# Altium footprint library SQD90P04-9m4L_GE3.PcbLib: 1 footprints
Each footprint in its own frame and in the unit in brackets; x right, y up, seen from the top. Pads: shape width x height; smd on the part's side, far side on the other; paste and mask are expansions set on the pad; w line width, h text height; cw(c..) or ccw(c..) is an arc to the next point about the centre after c.
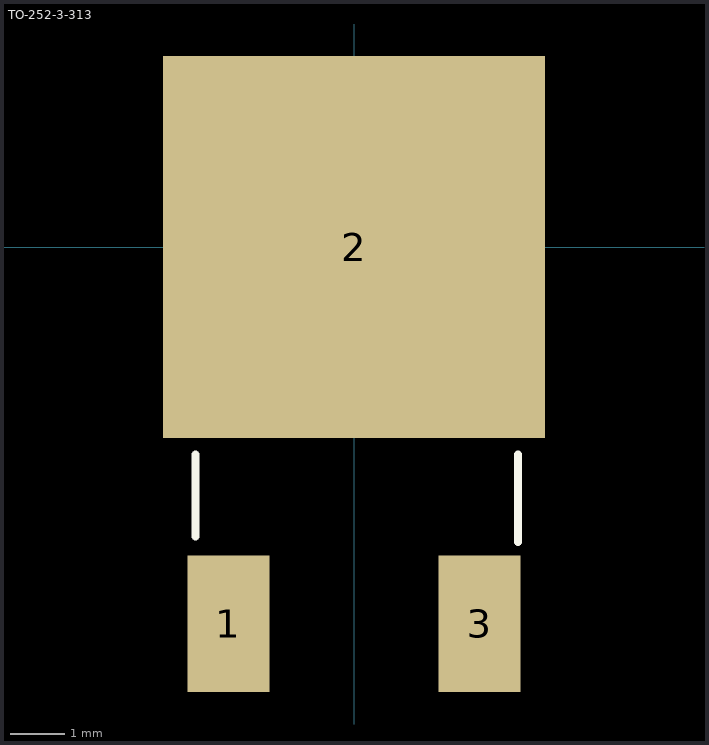
[diagram p0: the footprint, top view; thin cyan lines are the x and y axes]

## TO-252-3-313 [mm]
pads (3):
  rect 1.5x2.5 smd: 1(-2.3,-6.9) 3(2.3,-6.9)
  rect 7x7 smd: 2(0,0)
Top Overlay:
  lines w0.15: -2.9,-5.3 -2.9,-3.8 ; 3,-5.4 3,-3.8
3D body "TO252-3.STEP": height 2.41, standoff 0, extent -3.35,-7.2 3.35,3.152